# Altium schematic symbol library 5442248.SchLib: 1 symbol
Pins are listed as number, name and electrical type; pins without a type are passive.

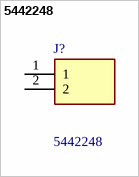
[diagram p0: symbol 5442248]

## 5442248
designator J?
Fixed Terminal Blocks BC-350X9- 2 GN 3.5 MM PITCH; Manufacturer_Name: Phoenix Contact; Geometry.Height: 8.65mm; Manufacturer_Part_Number: 5442248; Mouser Part Number: 651-5442248; Mouser Price/Stock: https://www.mouser.co.uk/ProductDetail/Phoenix-Contact/5442248?qs=9Y9qB%2FCsC3kNHrXWmi1dGA%3D%3D; Arrow Part Number: 5442248; Arrow Price/Stock: https://www.arrow.com/en/products/5442248/phoenix-contact; Datasheet Link: http://www.phoenixcontact.net/product/5442248
footprint 5442248
pins: 1, 2